# Altium schematic symbol library Capacitor-Electrolytic-33uF-16v-Radial.SchLib: 1 symbol
Pins are listed as number, name and electrical type; pins without a type are passive.

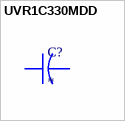
[diagram p0: symbol UVR1C330MDD]

## UVR1C330MDD
designator C?
33ÂµF 16V Aluminum Electrolytic Capacitors Radial, Can 2000 Hrs @ 85Â°C; MP: UVR1C330MDD; MF: Nichicon; Availability: Good; Package: Radial Nichicon; SnapEDA_Link: https://www.snapeda.com/parts/UVR1C330MDD/Nichicon/view-part/859142/?ref=snap; Purchase-URL: https://pricing.snapeda.com/search/part/UVR1C330MDD/?ref=eda; Check_prices: https://www.snapeda.com/parts/UVR1C330MDD/Nichicon/view-part/859142/?ref=eda; Value: *; Price: None
footprint CAPPRD200W50D550H1250
pins: 1, 2